# EAGLE library part DS2786 (library kwoo)
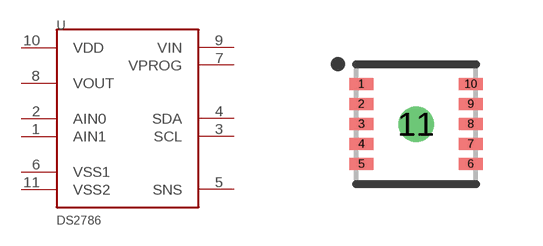
[diagram p24: symbol with the pads of 10-TDFN; footprint 10-TDFN]

Designator prefix U

## DS2786  [10-TDFN]
1  AIN1
2  AIN0
3  SCL
4  SDA
5  SNS
6  VSS1
7  VPROG
8  VOUT
9  VIN
10  VDD
11  VSS2

## Footprint 10-TDFN (pad centres in mm)
10 TDFN Thin dual flat no leads package with no 10 leads, large pad in center. Shrunk pads away from each other (compared to recommended land placement) avoid overlap of exclusion zones.
smd 0.6 x 0.3: 1 -1.37,1; 2 -1.37,0.5; 3 -1.37,0; 4 -1.37,-0.5; 5 -1.37,-1; 6 1.37,-1; 7 1.37,-0.5; 8 1.37,0; 9 1.37,0.5; 10 1.37,1
drill 0.381 round: 11 0,0